# Altium schematic symbol library DHT.SchLib: 1 symbol
Pins are listed as number, name and electrical type; pins without a type are passive.

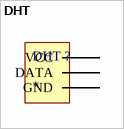
[diagram p0: symbol DHT]

## DHT
designator DHT ?
footprint DHT
pins: 9 VCC, 10 DATA, 11 GND